# EAGLE library part 6250XX21721_62505021721 (library Eagle_WR-BHD (rev21a))
WR-BHD 2.00 mm Male Angled Box Header KIND PROPERTIES: Pitch 2 mm Gender:Male MATERIAL PROPERTIES: Insulator Material:PBT Insulator Flammability Rating UL94 V-0 Insulator Color:Black Contact Material :Copper Alloy Contact Plating :Gold Contact Type: Stamped GENERAL INFORMATION: Operating Temperature:-40 °C up to +125 °C Compliance:RoHS Working Voltage: 250 V (AC) Withstanding Voltage:500 V (AC) Contact Resistance: 20 mΩ Insulation Resistance:1000 MΩ PACKAGING PROPERTIES Packaging :Tray <https://www.we-online.de/katalog/media/o32929v209%20Family_WR-BHD_6250xx21721.jpg> Details see: https://www.we-online.de/katalog/en/em/BHD_2_00_MALE_ANGLED_BOX_HEADER_6250XX21721 Updated by Yingchun,Shan 2019-11-04 2019 (C) Würth Elektronik
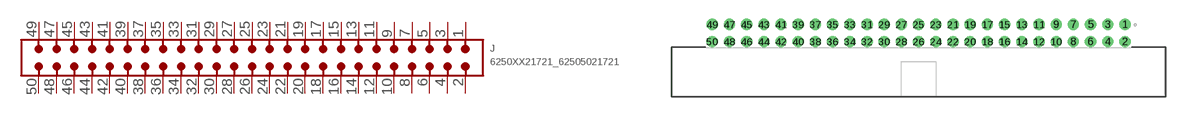
[diagram p133: symbol with the pads of 62505021721; footprint 62505021721]

Designator prefix J

## 6250XX21721_62505021721 (CONTACT-RESISTANCE: 20mOhm; DATASHEET-URL: https://www.we-online.com/catalog/datasheet/62505021721.pdf; GENDER: Male; IR: 2A; L: 57.25mm; MOUNT: THT; PACKAGING: Tray; PART-NUMBER: 62505021721; PINS: 50; PITCH: 2mm; TYPE: Angled; VALUE: 62505021721; WORKING-VOLTAGE: 250V(AC))  [62505021721]
1  1  pas
2  2  pas
3  3  pas
4  4  pas
5  5  pas
6  6  pas
7  7  pas
8  8  pas
9  9  pas
10  10  pas
11  11  pas
12  12  pas
13  13  pas
14  14  pas
15  15  pas
16  16  pas
17  17  pas
18  18  pas
19  19  pas
20  20  pas
21  21  pas
22  22  pas
23  23  pas
24  24  pas
25  25  pas
26  26  pas
27  27  pas
28  28  pas
29  29  pas
30  30  pas
31  31  pas
32  32  pas
33  33  pas
34  34  pas
35  35  pas
36  36  pas
37  37  pas
38  38  pas
39  39  pas
40  40  pas
41  41  pas
42  42  pas
43  43  pas
44  44  pas
45  45  pas
46  46  pas
47  47  pas
48  48  pas
49  49  pas
50  50  pas

## Footprint 62505021721 (pad centres in mm)
WR-BHD 2.00 mm Male Angled Box Header,50 pins
drill 0.8: 1 24,5.55; 2 24,3.55; 3 22,5.55; 4 22,3.55; 5 20,5.55; 6 20,3.55; 7 18,5.55; 8 18,3.55; 9 16,5.55; 10 16,3.55; 11 14,5.55; 12 14,3.55; 13 12,5.55; 14 12,3.55; 15 10,5.55; 16 10,3.55; 17 8,5.55; 18 8,3.55; 19 6,5.55; 20 6,3.55; 21 4,5.55; 22 4,3.55; 23 2,5.55; 24 2,3.55; 25 0,5.55; 26 0,3.55; 27 -2,5.55; 28 -2,3.55; 29 -4,5.55; 30 -4,3.55; 31 -6,5.55; 32 -6,3.55; 33 -8,5.55; 34 -8,3.55; 35 -10,5.55; 36 -10,3.55; 37 -12,5.55; 38 -12,3.55; 39 -14,5.55; 40 -14,3.55; 41 -16,5.55; 42 -16,3.55; 43 -18,5.55; 44 -18,3.55; 45 -20,5.55; 46 -20,3.55; 47 -22,5.55; 48 -22,3.55; 49 -24,5.55; 50 -24,3.55